# Altium schematic symbol library SS36.SchLib: 1 symbol
Pins are listed as number, name and electrical type; pins without a type are passive.

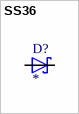
[diagram p0: symbol SS36]

## SS36
designator D?
Diode Schottky 60 V 3A Surface Mount SMC (DO-214AB); MF: ON Semiconductor; MP: SS36; Check_prices: https://www.snapeda.com/parts/SS36/Onsemi/view-part/?ref=eda; SnapEDA_Link: https://www.snapeda.com/parts/SS36/Onsemi/view-part/?ref=snap; Availability: In Stock; Value: *; Price: None; Package: SMC-2 ON Semiconductor; Purchase-URL: https://pricing.snapeda.com/search/part/SS36/?ref=eda
footprint SMA
pins: A, C